# EAGLE library part ELECTRON (library electron)
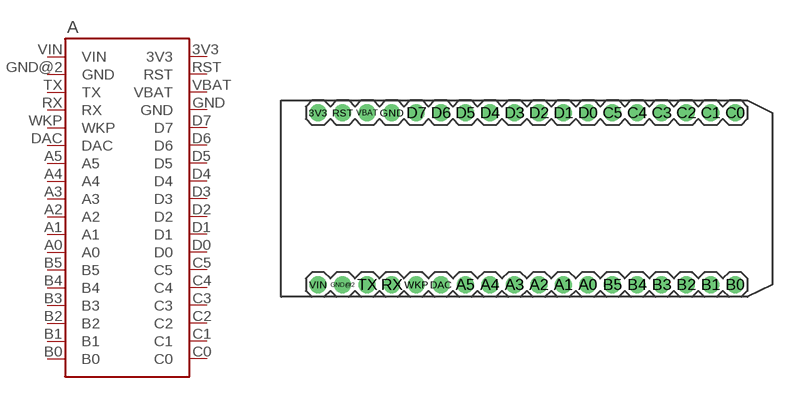
[diagram p0: symbol with the pads of ELECTRON_SINGLE-ROW; footprint ELECTRON_SINGLE-ROW]

Designator prefix A

## ELECTRON  [ELECTRON_SINGLE-ROW]
3V3  3V3  pwr
A0  A0
A1  A1
A2  A2
A3  A3
A4  A4
A5  A5
B0  B0
B1  B1
B2  B2
B3  B3
B4  B4
B5  B5
C0  C0
C1  C1
C2  C2
C3  C3
C4  C4
C5  C5
D0  D0
D1  D1
D2  D2
D3  D3
D4  D4
D5  D5
D6  D6
D7  D7
DAC  DAC
GND  GND  pwr
GND@2  GND  pwr
RST  RST
RX  RX
TX  TX
VBAT  VBAT  pas
VIN  VIN  pwr
WKP  WKP

## Footprint ELECTRON_SINGLE-ROW (pad centres in mm)
Electron socket for a single-row header for a shield. Based off the ELECTRON_DUAL-ROW from the Particle library.
drill 0.889 pad 1.753: 3V3 3.81,19.05; A0 31.75,1.27; A1 29.21,1.27; A2 26.67,1.27; A3 24.13,1.27; A4 21.59,1.27; A5 19.05,1.27; B0 46.99,1.27; B1 44.45,1.27; B2 41.91,1.27; B3 39.37,1.27; B4 36.83,1.27; B5 34.29,1.27; C0 46.99,19.05; C1 44.45,19.05; C2 41.91,19.05; C3 39.37,19.05; C4 36.83,19.05; C5 34.29,19.05; D0 31.75,19.05; D1 29.21,19.05; D2 26.67,19.05; D3 24.13,19.05; D4 21.59,19.05; D5 19.05,19.05; D6 16.51,19.05; D7 13.97,19.05; DAC 16.51,1.27; GND 11.43,19.05; GND@2 6.35,1.27; RST 6.35,19.05; RX 11.43,1.27; TX 8.89,1.27; VBAT 8.89,19.05; VIN 3.81,1.27; WKP 13.97,1.27